# Altium footprint library mainLib.PcbLib: 21 footprints (part 2 of 2)
Each footprint in its own frame and in the unit in brackets; x right, y up, seen from the top. Pads: shape width x height; smd on the part's side, far side on the other; paste and mask are expansions set on the pad; w line width, h text height; cw(c..) or ccw(c..) is an arc to the next point about the centre after c.
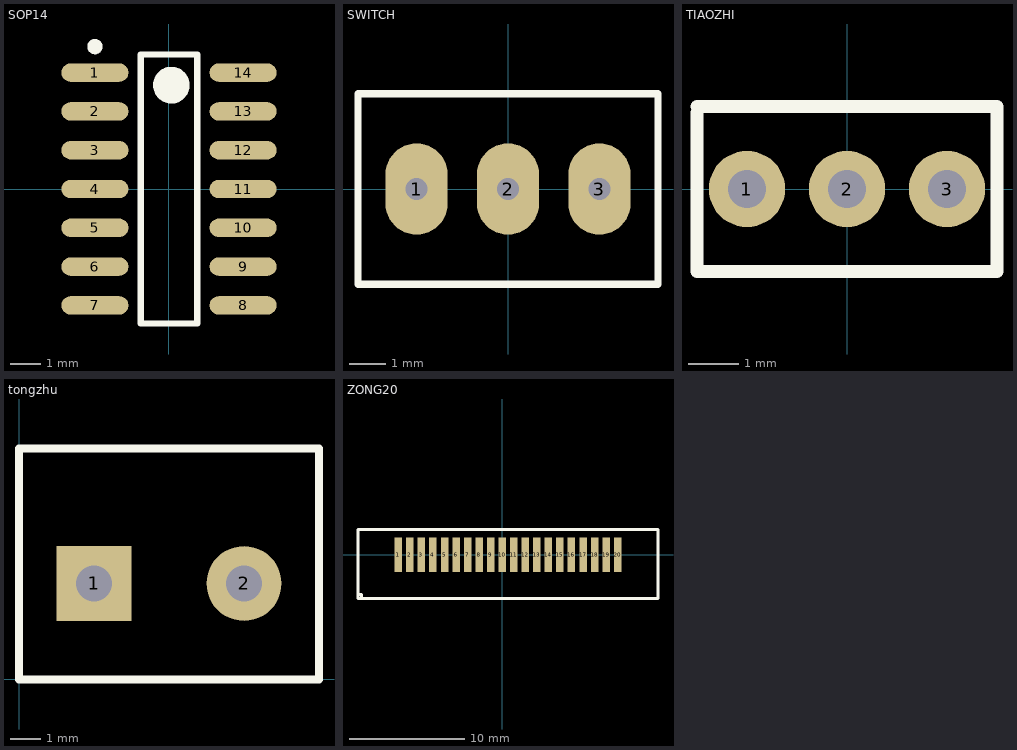
[diagram p1: the footprints below, top view; thin cyan lines are the x and y axes]

## SOP14 [mm]
height 1.75
pads (14):
  oval 2.2x0.6 smd: 1(-2.425,3.81) 2(-2.425,2.54) 3(-2.425,1.27) 4(-2.425,0) 5(-2.425,-1.27) 6(-2.425,-2.54) 7(-2.425,-3.81) 8(2.425,-3.81) 9(2.425,-2.54) 10(2.425,-1.27) 11(2.425,0) 12(2.425,1.27) 13(2.425,2.54) 14(2.425,3.81)
Top Overlay:
  circle w0.25: c-2.425,4.66 r0.125
  circle w0.6: c0.075,3.4 r0.3
  lines w0.2: -0.925,-4.4 -0.925,4.4 0.925,4.4 0.925,-4.4 -0.925,-4.4

## SWITCH [mm]
pads (3):
  oval 1.7x2.5 hole 0.6: 1(-2.5,0) 2(0,0) 3(2.5,0)
Top Overlay:
  lines w0.2: -4.1,-2.6 -4.1,2.6 4.1,2.6 4.1,-2.6 -4.1,-2.6

## TIAOZHI [mil]
pads (3):
  round 60 hole 30: 1(-78.74,0) 2(0,0) 3(78.74,0)
Top Overlay:
  lines w10: -118.11,60 -118.11,-65 118.11,-65 118.11,65 -118.11,65

## tongzhu [mm]
pads (2):
  rect 2.5x2.5 hole 1.2: 1(2.5,3.2)
  round 2.5 hole 1.2: 2(7.5,3.2)
Top Overlay:
  lines w0.254: 0,0 10,0 10,7.7 0,7.7 0,0

## ZONG20 [mm]
pads (20):
  rect 0.65x3 smd: 1(-9,0) 2(-8,0) 3(-7,0) 4(-6,0) 5(-5,0) 6(-4,0) 7(-3,0) 8(-2,0) 9(-1,0) 10(0,0) 11(1,0) 12(2,0) 13(3,0) 14(4,0) 15(5,0) 16(6,0) 17(7,0) 18(8,0) 19(9,0) 20(10,0)
Top Overlay:
  lines w0.254: -12.5,-3.429 -12.192,-3.429 -12.192,-3.8 ; -12.5,-3.8 -12.5,-2.413 -12.5,2.2 13.5,2.2 13.5,-3.8 -12.5,-3.8
Bottom Overlay:
  lines w0.254: -12.256,-3.8 -12.192,-3.8